# Altium schematic symbol library Components - 23.04.26 - 11.36.SchLib: 1 symbol
Pins are listed as number, name and electrical type; pins without a type are passive.

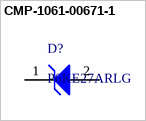
[diagram p0: symbol CMP-1061-00671-1]

## CMP-1061-00671-1
designator D?, comment P6KE27ARLG
600 W Peak Power Transient Voltage Suppressor, 2-Pin Surmetic(TM) 40, Pb-Free, Tape and Reel; Manufacturer: On Semiconductor; V(BR) Typ (V): 27.05; Direction: Unidirectional; IR Max (uA): 5; PPK Max (W): 600; ComponentLink1URL: http://www.onsemi.com/; RoHS: Pb-Free; Mounting Technology: Through Hole; ComponentLink2Description: Datasheet; PackageDescription: 2-Pin, Axial Lead, Diameter 3.49 mm; ComponentLink2URL: http://www.onsemi.com/pub_link/Collateral/P6KE6.8A-D.PDF; DatasheetVersion: Rev. 10; ComponentLink3URL: http://www.onsemi.cn/pub_link/Collateral/017AA.PDF; PartNumber: P6KE27ARLG; PackageVersion: Rev. O, 09/2005; ComponentLink1Description: Manufacturer URL; ComponentLink3Description: Package Specification; Packing: Tape and Reel; PackageReference: SURMETIC40-2-017AA-01
footprint ONSC-SURMETIC40-2-017AA-01 (AXIAL, 2-Leads, Diameter 3.49mm)
pins: 1 K, 2 A